# EAGLE library part ATTINY441 (library greg)
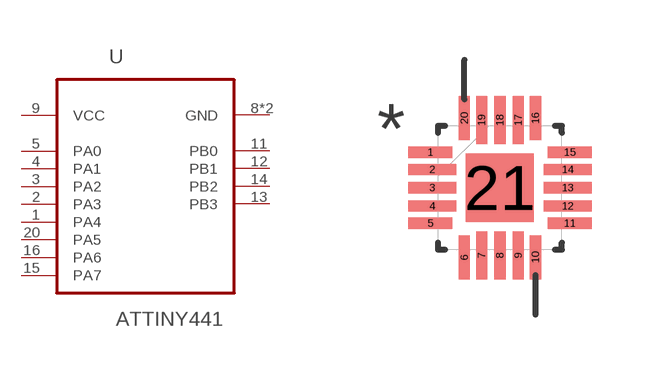
[diagram p15: symbol with the pads of QFN-20; footprint QFN-20]

Designator prefix -

## ATTINY441QFN-20  [QFN-20]
1  PA4
2  PA3
3  PA2
4  PA1
5  PA0
8  GND  pas
9  VCC  pwr
11  PB0
12  PB1
13  PB3
14  PB2
15  PA7
16  PA6
20  PA5
21  GND  pas

## Footprint QFN-20 (pad centres in mm)
smd 1.1 x 0.279: 1 -1.742,0.889; 5 -1.742,-0.889; 11 1.742,-0.889; 15 1.742,0.889
smd 1.2 x 0.279: 2 -1.692,0.457; 3 -1.692,0; 4 -1.692,-0.457; 12 1.692,-0.457; 13 1.692,0; 14 1.692,0.457
smd 0.279 x 1.1: 6 -0.889,-1.742; 10 0.889,-1.742; 16 0.889,1.742; 20 -0.889,1.742
smd 0.279 x 1.2: 7 -0.457,-1.692; 8 0,-1.692; 9 0.457,-1.692; 17 0.457,1.692; 18 0,1.692; 19 -0.457,1.692
smd 1.702 x 1.702: 21 0,0